# Altium footprint library 水下机器人电调控制板2020.PcbLib: 54 footprints (part 3 of 4)
Each footprint in its own frame and in the unit in brackets; x right, y up, seen from the top. Pads: shape width x height; smd on the part's side, far side on the other; paste and mask are expansions set on the pad; w line width, h text height; cw(c..) or ccw(c..) is an arc to the next point about the centre after c.
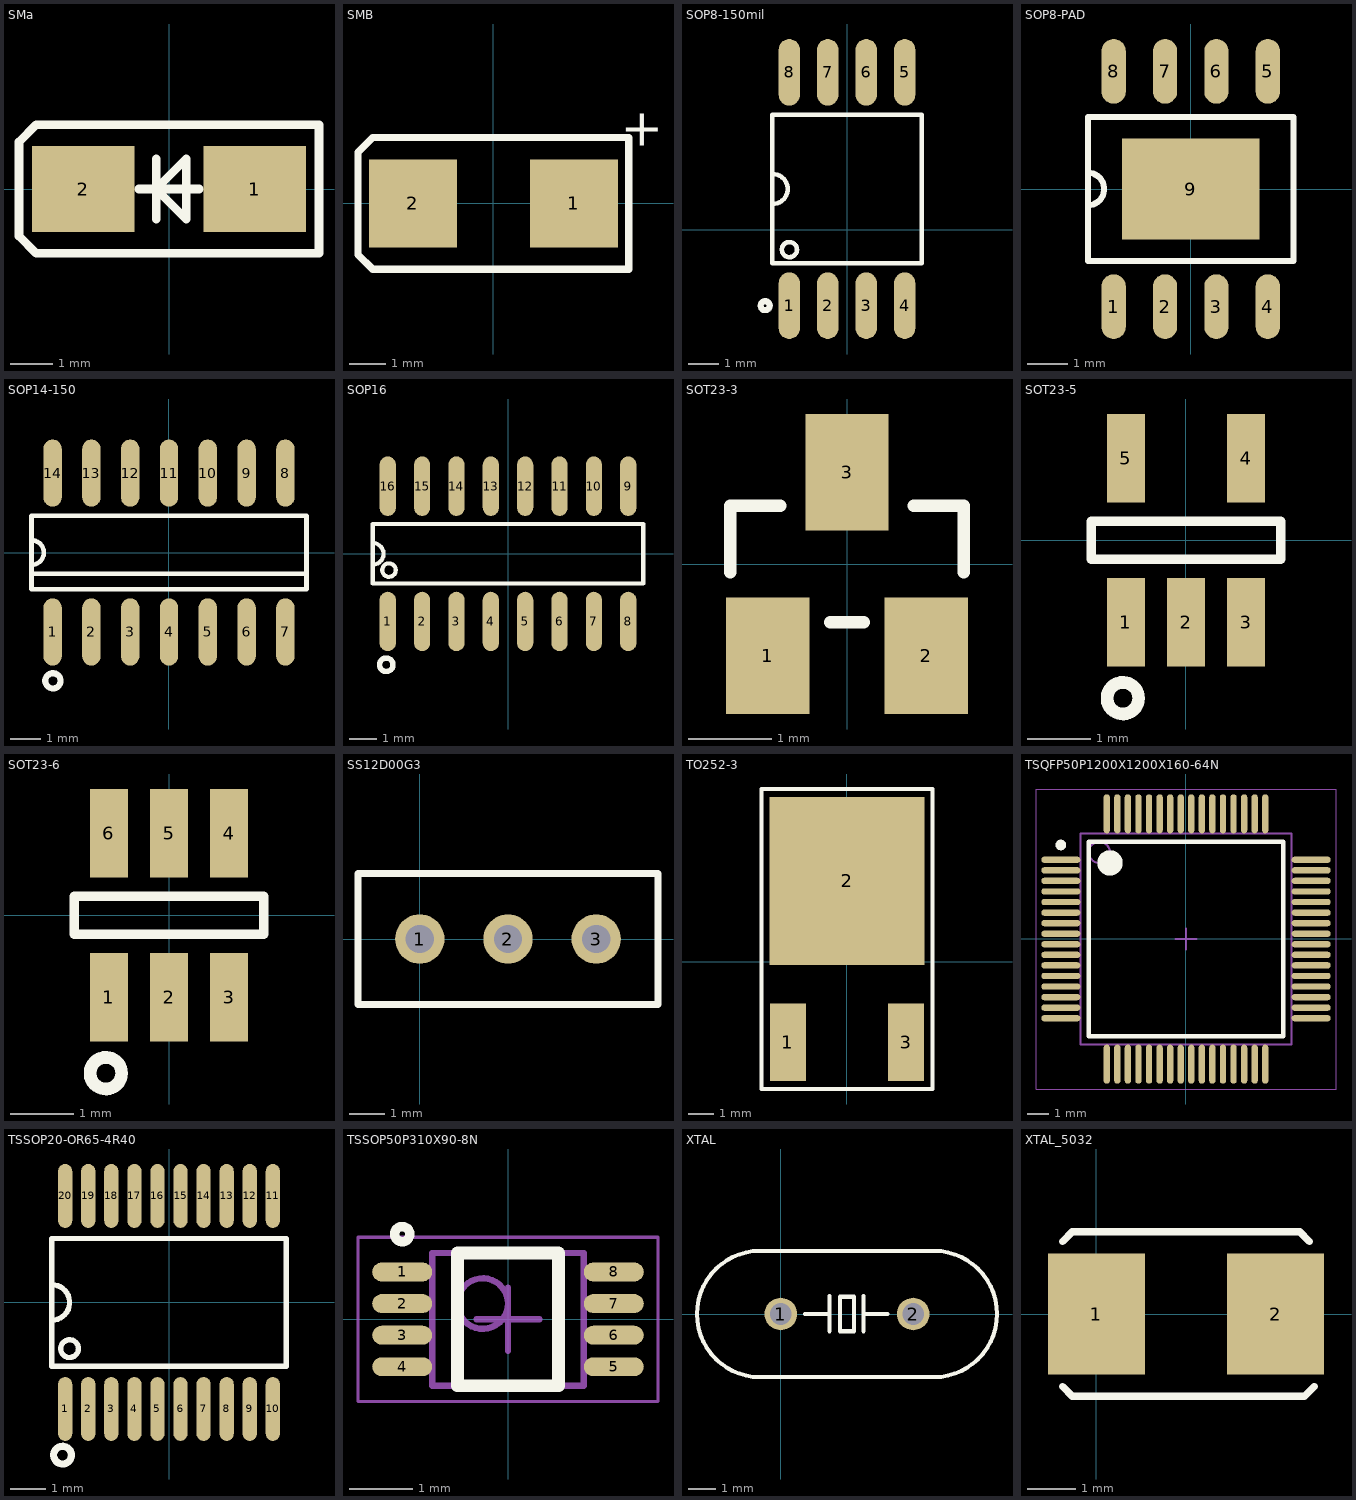
[diagram p2: the footprints below, top view; thin cyan lines are the x and y axes]

## SMa [mm]
pads (2):
  rect 2.4x2 smd: 1(2,0) 2(-2,0)
Top Overlay:
  lines w0.2: -0.7,0 0.7,0 ; -0.3,-0.7 -0.3,0.7 ; -3.5,-1.1 -3.1,-1.5 3.5,-1.5 3.5,1.5 -3.1,1.5 -3.5,1.1 -3.5,-1.1 ; -0.3,0 0.4,-0.7 0.4,0.7 -0.3,0

## SMB [mm]
pads (2):
  rect 2.4x2.4 smd: 1(2.2,0) 2(-2.2,0)
Top Overlay:
  lines w0.2: -3.7,-1.4 -3.3,-1.8 3.7,-1.8 3.7,1.8 -3.3,1.8 -3.7,1.4 -3.7,-1.4
  text "+" at 3.48,1.57 h1.02

## SOP8-150mil [mm]
pads (8):
  oval 0.7x2.2 smd: 1(-1.905,-2.5) 2(-0.635,-2.5) 3(0.635,-2.5) 4(1.905,-2.5) 5(1.905,5.2) 6(0.635,5.2) 7(-0.635,5.2) 8(-1.905,5.2)
Top Overlay:
  circle w0.15: c-1.9,-0.65 r0.25
  circle w0.2: c-2.7,-2.5 r0.15
  lines w0.15: -2.46,0.85 ccw(c-2.46,1.35) -2.46,1.85 ; -2.46,0.85 -2.46,1.85 ; -2.46,0.85 -2.46,-1.1 2.46,-1.1 2.46,3.8 -2.46,3.8 -2.46,1.85

## SOP8-PAD [mm]
pads (9):
  oval 0.6x1.6 smd: 1(-1.905,-2.908) 2(-0.635,-2.908) 3(0.635,-2.908) 4(1.905,-2.908) 5(1.905,2.908) 6(0.635,2.908) 7(-0.635,2.908) 8(-1.905,2.908)
  rect 3.4x2.5 smd: 9(0,0)
Top Overlay:
  lines w0.15: -2.54,-0.4 ccw(c-2.54,0) -2.54,0.4 ; -2.54,-1.778 2.54,-1.778 2.54,1.778 -2.54,1.778 -2.54,-1.778

## SOP14-150 [mm]
pads (14):
  oval 0.6x2.2 smd: 1(-3.81,-2.6) 2(-2.54,-2.6) 3(-1.27,-2.6) 4(0,-2.6) 5(1.27,-2.6) 6(2.54,-2.6) 7(3.81,-2.6) 8(3.81,2.6) 9(2.54,2.6) 10(1.27,2.6) 11(0,2.6) 12(-1.27,2.6) 13(-2.54,2.6) 14(-3.81,2.6)
Top Overlay:
  circle w0.2: c-3.8,-4.2 r0.25
  lines w0.15: -4.5,-0.7 4.5,-0.7 ; -4.495,-0.4 ccw(c-4.495,0) -4.495,0.4 ; -4.5,-1.2 4.5,-1.2 4.5,1.2 -4.5,1.2 -4.5,-1.2

## SOP16 [mm]
pads (16):
  oval 0.6x2.2 smd: 1(-4.445,-2.5) 2(-3.175,-2.5) 3(-1.905,-2.5) 4(-0.635,-2.5) 5(0.635,-2.5) 6(1.905,-2.5) 7(3.175,-2.5) 8(4.445,-2.5) 9(4.445,2.5) 10(3.175,2.5) 11(1.905,2.5) 12(0.635,2.5) 13(-0.635,2.5) 14(-1.905,2.5) 15(-3.175,2.5) 16(-4.445,2.5)
Top Overlay:
  circle w0.15: c-4.4,-0.6 r0.25
  circle w0.2: c-4.5,-4.1 r0.25
  lines w0.15: -5,-0.4 ccw(c-5,0) -5,0.4 ; -5,-1.1 -5,1.1 5,1.1 5,-1.1 -5,-1.1

## SOT23-3 [mm]
pads (3):
  rect 1x1.4 smd: 1(-0.95,-1.1) 2(0.95,-1.1) 3(0,1.1)
Top Overlay:
  lines w0.15: -1.4,-0.1 -1.4,0.7 -0.8,0.7 ; -0.2,-0.7 0.2,-0.7 ; 0.8,0.7 1.4,0.7 1.4,-0.1

## SOT23-5 [mm]
pads (5):
  rect 0.6x1.4 smd: 1(-0.95,-1.3) 2(0,-1.3) 3(0.95,-1.3) 4(0.95,1.3) 5(-0.95,1.3)
Top Overlay:
  circle w0.2: c-1,-2.5 r0.25
  lines w0.15: -1.5,-0.3 -1.5,0.3 1.5,0.3 1.5,-0.3 -1.5,-0.3

## SOT23-6 [mm]
pads (6):
  rect 0.6x1.4 smd: 1(-0.95,-1.3) 2(0,-1.3) 3(0.95,-1.3) 4(0.95,1.3) 5(0,1.3) 6(-0.95,1.3)
Top Overlay:
  circle w0.2: c-1,-2.5 r0.25
  lines w0.15: -1.5,-0.3 -1.5,0.3 1.5,0.3 1.5,-0.3 -1.5,-0.3

## SS12D00G3 [mm]
pads (3):
  round 1.4 hole 0.8: 1(0,0) 2(2.5,0) 3(5,0)
Top Overlay:
  lines w0.2: -1.75,-1.85 6.75,-1.85 6.75,1.85 -1.75,1.85 -1.75,-1.85

## TO252-3 [mm]
pads (3):
  rect 1.4x3 smd: 1(-2.285,-3.125) 3(2.285,-3.125)
  rect 6x6.5 smd: 2(0,3.125)
Top Overlay:
  lines w0.15: -3.3,-4.925 -3.3,6.675 3.3,6.675 3.3,-4.925 -3.3,-4.925

## TSQFP50P1200X1200X160-64N [mm] "TSQFP, 64-Leads, Body 10.00x10.00mm, Pitch 0.50mm, IPC Medium Density"
height 1.6
pads (64):
  oval 1.85x0.3 smd: 1(-5.925,3.75) 2(-5.925,3.25) 3(-5.925,2.75) 4(-5.925,2.25) 5(-5.925,1.75) 6(-5.925,1.25) 7(-5.925,0.75) 8(-5.925,0.25) 9(-5.925,-0.25) 10(-5.925,-0.75) 11(-5.925,-1.25) 12(-5.925,-1.75) 13(-5.925,-2.25) 14(-5.925,-2.75) 15(-5.925,-3.25) 16(-5.925,-3.75) 33(5.925,-3.75) 34(5.925,-3.25) 35(5.925,-2.75) 36(5.925,-2.25) 37(5.925,-1.75) 38(5.925,-1.25) 39(5.925,-0.75) 40(5.925,-0.25) 41(5.925,0.25) 42(5.925,0.75) 43(5.925,1.25) 44(5.925,1.75) 45(5.925,2.25) 46(5.925,2.75) 47(5.925,3.25) 48(5.925,3.75)
  oval 0.3x1.85 smd: 17(-3.75,-5.925) 18(-3.25,-5.925) 19(-2.75,-5.925) 20(-2.25,-5.925) 21(-1.75,-5.925) 22(-1.25,-5.925) 23(-0.75,-5.925) 24(-0.25,-5.925) 25(0.25,-5.925) 26(0.75,-5.925) 27(1.25,-5.925) 28(1.75,-5.925) 29(2.25,-5.925) 30(2.75,-5.925) 31(3.25,-5.925) 32(3.75,-5.925) 49(3.75,5.925) 50(3.25,5.925) 51(2.75,5.925) 52(2.25,5.925) 53(1.75,5.925) 54(1.25,5.925) 55(0.75,5.925) 56(0.25,5.925) 57(-0.25,5.925) 58(-0.75,5.925) 59(-1.25,5.925) 60(-1.75,5.925) 61(-2.25,5.925) 62(-2.75,5.925) 63(-3.25,5.925) 64(-3.75,5.925)
Top Overlay:
  circle w0.25: c-5.925,4.45 r0.125
  circle w0.6: c-3.6,3.6 r0.3
  lines w0.2: -4.6,-4.6 -4.6,4.6 4.6,4.6 4.6,-4.6 -4.6,-4.6
Mechanical 13:
  circle w0.1: c-4.1,4.1 r0.5
  lines w0.1: -5,-5 -5,5 5,5 5,-5 -5,-5
Mechanical 15:
  lines w0.05: -7.1,-7.1 -7.1,7.1 7.1,7.1 7.1,-7.1 -7.1,-7.1
  lines w0.1: -0.5,0 0.5,0 ; 0,-0.5 0,0.5
3D body: height 1.6, standoff 0.1, extent -5,-5 5,5

## TSSOP20-OR65-4R40 [mm]
pads (20):
  oval 0.4x1.8 smd: 1(-2.925,-3) 2(-2.275,-3) 3(-1.625,-3) 4(-0.975,-3) 5(-0.325,-3) 6(0.325,-3) 7(0.975,-3) 8(1.625,-3) 9(2.275,-3) 10(2.925,-3) 11(2.925,3) 12(2.275,3) 13(1.625,3) 14(0.975,3) 15(0.325,3) 16(-0.325,3) 17(-0.975,3) 18(-1.625,3) 19(-2.275,3) 20(-2.925,3)
Top Overlay:
  circle w0.2: c-3,-4.3 r0.25
  circle w0.15: c-2.8,-1.3 r0.25
  lines w0.15: -3.3,-0.5 ccw(c-3.3,0) -3.3,0.5 ; -3.3,-1.8 -3.3,1.8 3.3,1.8 3.3,-1.8 -3.3,-1.8

## TSSOP50P310X90-8N [mm] "TSSOP, 8-Leads, Body 2.00x2.30mm, Pitch 0.50mm, IPC Medium Density"
height 0.9
pads (8):
  oval 0.95x0.3 smd: 1(-1.675,0.75) 2(-1.675,0.25) 3(-1.675,-0.25) 4(-1.675,-0.75) 5(1.675,-0.75) 6(1.675,-0.25) 7(1.675,0.25) 8(1.675,0.75)
Top Overlay:
  circle w0.15: c-1.675,1.35 r0.12
  lines w0.2: -0.8,-1.05 0.8,-1.05 0.8,1.05 -0.8,1.05 -0.8,-1.05
Mechanical 13:
  circle w0.1: c-0.4,0.25 r0.4
  lines w0.1: -1.2,-1.05 1.2,-1.05 1.2,1.05 -1.2,1.05 -1.2,-1.05
Mechanical 15:
  lines w0.05: -2.375,-1.3 2.375,-1.3 2.375,1.3 -2.375,1.3 -2.375,-1.3
  lines w0.1: -0.5,0 0.5,0 ; 0,-0.5 0,0.5
3D body: height 0.9, standoff 0.1, extent -1.2,-1.05 1.2,1.05

## XTAL [mm]
pads (2):
  round 1.2 hole 0.8: 1(0,0) 2(4.88,0)
Top Overlay:
  lines w0.15: 0.889,0 1.8,0 ; 1.8,-0.635 1.8,0.665 ; 3.048,0 3.937,0 ; 3.053,-0.635 3.053,0.665 ; -0.76,-2.33 cw(c-0.76,0) -0.76,2.33 5.64,2.33 cw(c5.64,0) 5.64,-2.33 -0.76,-2.33 ; 2.186,-0.635 2.694,-0.635 2.694,0.635 2.186,0.635 2.186,-0.635

## XTAL_5032 [mm]
pads (2):
  rect 2x2.5 smd: 1(0,0) 2(3.7,0)
Top Overlay:
  lines w0.15: -0.7,-1.5 -0.5,-1.7 0,-1.7 3.7,-1.7 4.3,-1.7 4.5,-1.5 ; -0.7,1.5 -0.5,1.7 ; 4.4,1.5 4.2,1.7 -0.5,1.7 ; -0.5,1.7 -0.5,1.7